# Altium footprint library pcb layer test lib2-reassign-test2.PcbLib: 1 footprints
Each footprint in its own frame and in the unit in brackets; x right, y up, seen from the top. Pads: shape width x height; smd on the part's side, far side on the other; paste and mask are expansions set on the pad; w line width, h text height; cw(c..) or ccw(c..) is an arc to the next point about the centre after c.
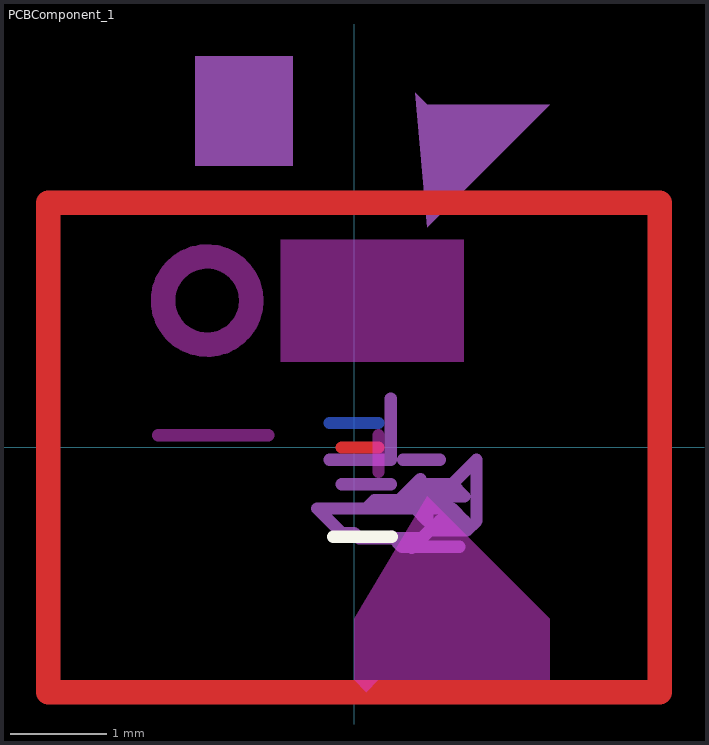
[diagram p0: the footprint, top view; thin cyan lines are the x and y axes]

## PCBComponent_1 [mm]
Top Layer:
  lines w0.127: -0.127,0 0.254,0
  lines w0.254: -3.175,-2.54 3.175,-2.54 3.175,2.54 -3.175,2.54 -3.175,-2.54
  text ".Designator" at -2.499,-0.167 h0.5
Top Layer keep-out:
  circle w0.254: c-1.524,1.524 r0.458
  rectangle: -0.762,0.889 1.143,2.159
  region: 0.762,-0.508 2.032,-1.778 2.032,-2.413 0.254,-2.413 0.127,-2.54 0,-2.413 0,-1.778
  lines w0.127: -2.032,0.127 -0.889,0.127
Layer 1:
  lines w0.127: 0,0.635 0.381,0.635 ; 0.635,0 0.635,0.508
Layer 3:
  lines w0.127: 0.635,0 0.889,0.254
Layer 7:
  lines w0.127: 0.507,-0.254 0.781,-0.254 0.889,-0.146
Layer 8:
  lines w0.127: -0.007,-0.381 0.38,-0.381 0.507,-0.254
Layer 4:
  lines w0.127: -0.387,-0.254 -0.381,-0.248 -0.381,-0.127
Layer 2:
  lines w0.127: -0.381,-0.127 -0.381,0.127 -0.127,0.127 0,0.254
Bottom Layer:
  lines w0.127: -0.254,0.254 0.254,0.254
Top Overlay:
  lines w0.127: -0.213,-0.924 -0.215,-0.927 0.392,-0.927
Bottom Overlay:
  lines w0.127: -0.213,-0.924 0.446,-0.924 0.666,-1.144
Top Paste:
  lines w0.127: 0.157,-1.171 0.184,-1.144 0.666,-1.144
Bottom Paste:
  lines w0.127: 0.157,-1.171 0.791,-1.171 0.926,-1.306
Top Solder:
  lines w0.127: 0.018,-1.259 0.064,-1.306 0.926,-1.306
Bottom Solder:
  lines w0.127: -0.296,-1.12 -0.156,-1.259 0.018,-1.259
Layer 5:
  lines w0.127: 0.889,-0.146 0.889,0.254
Layer 6:
  lines w0.127: -0.387,-0.254 -0.134,-0.254 -0.007,-0.381
Drill Guide:
  lines w0.127: -0.492,-0.792 -0.296,-0.988 -0.296,-1.12
Keep-Out Layer:
  lines w0.127: 0.254,-0.254 0.254,0.127
Mechanical 2:
  rectangle: -1.651,2.921 -0.635,4.064
  lines w0.127: -0.254,-0.127 0.381,-0.127
Mechanical 3:
  lines w0.127: -0.127,-0.381 0.381,-0.381
Mechanical 4:
  lines w0.127: 0,-0.635 0.381,-0.635
Mechanical 5:
  lines w0.127: 0.508,-0.127 0.889,-0.127
Mechanical 6:
  lines w0.127: 0.635,-0.381 0.762,-0.381
Mechanical 7:
  region: 0.635,3.683 0.762,3.556 2.032,3.556 0.762,2.286
  lines w0.127: 0.762,-0.381 1.016,-0.381 1.143,-0.508
Mechanical 8:
  lines w0.127: 0.889,-0.508 1.143,-0.508
Mechanical 9:
  lines w0.127: 0.381,-0.635 0.508,-0.508 0.889,-0.508
Mechanical 10:
  lines w0.127: 0.381,-0.635 0.635,-0.635 0.762,-0.762
Mechanical 11:
  lines w0.127: 0.762,-0.762 0.762,-0.635
Mechanical 12:
  lines w0.127: 0.762,-0.635 1.016,-0.635 1.143,-0.762
Mechanical 13:
  lines w0.127: 0.708,-0.943 0.889,-0.762 1.143,-0.762
Mechanical 14:
  lines w0.127: 0,-0.889 0.054,-0.943 0.708,-0.943
Mechanical 15:
  lines w0.127: -0.381,-0.635 -0.127,-0.889 0,-0.889
Mechanical 16:
  lines w0.127: -0.381,-0.635 0.127,-0.635 0.213,-0.549
Drill Drawing:
  lines w0.127: -0.607,-1.098 -0.492,-0.983 -0.492,-0.792
Multi-Layer:
  lines w0.127: -0.607,-1.705 -0.607,-1.08
Mechanical 17:
  lines w0.127: 0.213,-0.549 0.467,-0.549 0.689,-0.327
Mechanical 18:
  lines w0.127: 0.689,-0.327 0.689,-0.689 0.87,-0.508
Mechanical 19:
  lines w0.127: 0.87,-0.508 0.889,-0.508 1.27,-0.127
Mechanical 20:
  lines w0.127: 1.169,-0.863 1.27,-0.762 1.27,-0.127
Mechanical 21:
  lines w0.127: 0.6,-1.044 0.781,-0.863 1.169,-0.863
Mechanical 80:
  lines w0.127: 0.381,-0.127 0.381,0.508
Bottom Assembly:
  lines w0.127: 0.392,-0.927 0.497,-1.032 1.094,-1.032
3D body "THS7374IPWR.step": height 1.2, standoff 0, extent -3.229,-2.493 3.171,2.507